# Altium schematic symbol library Schlib1.SchLib: 12 symbols
Pins are listed as number, name and electrical type; pins without a type are passive.

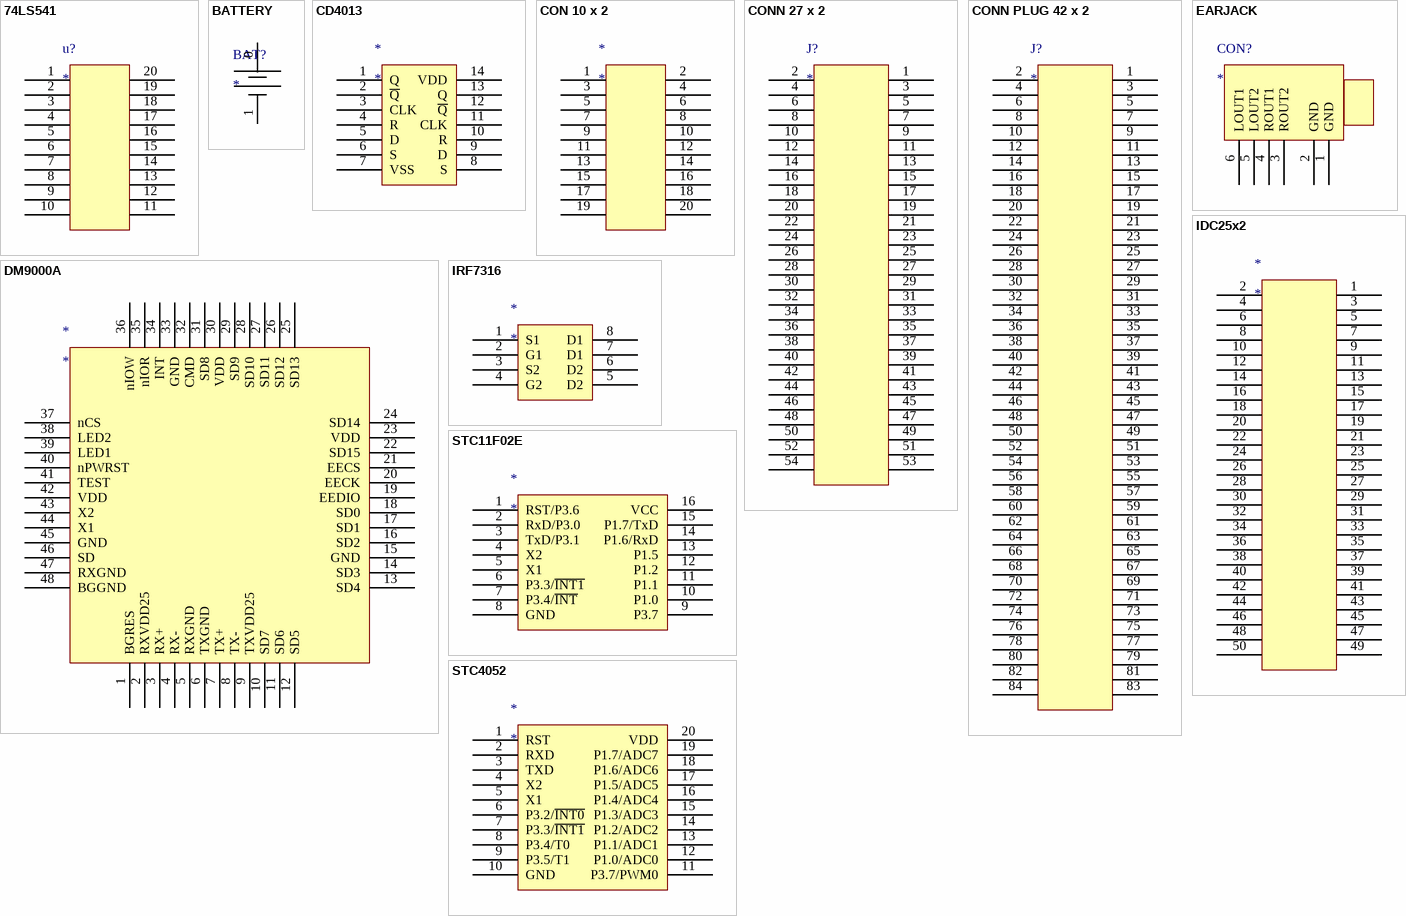
[diagram p0: symbols 74LS541 to STC4052]

## 74LS541
designator u?
pins: 1, 2, 3, 4, 5, 6, 7, 8, 9, 10, 11, 12, 13, 14, 15, 16, 17, 18, 19, 20

## BATTERY
designator BAT?
pins: 0, 1

## CD4013
designator *
pins: 1 Q, 2 ~{Q}, 3 CLK, 4 R, 5 D, 6 S, 7 VSS, 8 S, 9 D, 10 R, 11 CLK, 12 ~{Q}, 13 Q, 14 VDD

## CON 10 x 2
designator *
pins: 1, 2, 3, 4, 5, 6, 7, 8, 9, 10, 11, 12, 13, 14, 15, 16, 17, 18, 19, 20

## CONN 27 x 2
designator J?
pins: 1, 2, 3, 4, 5, 6, 7, 8, 9, 10, 11, 12, 13, 14, 15, 16, 17, 18, 19, 20, 21, 22, 23, 24, 25, 26, 27, 28, 29, 30, 31, 32, 33, 34, 35, 36, 37, 38, 39, 40, 41, 42, 43, 44, 45, 46, 47, 48, 49, 50, 51, 52, 53, 54

## CONN PLUG 42 x 2
designator J?
pins: 1, 2, 3, 4, 5, 6, 7, 8, 9, 10, 11, 12, 13, 14, 15, 16, 17, 18, 19, 20, 21, 22, 23, 24, 25, 26, 27, 28, 29, 30, 31, 32, 33, 34, 35, 36, 37, 38, 39, 40, 41, 42, 43, 44, 45, 46, 47, 48, 49, 50, 51, 52, 53, 54, 55, 56, 57, 58, 59, 60, 61, 62, 63, 64, 65, 66, 67, 68, 69, 70, 71, 72, 73, 74, 75, 76, 77, 78, 79, 80, 81, 82, 83, 84

## DM9000A
designator *
pins: 1 BGRES, 2 RXVDD25, 3 RX+, 4 RX-, 5 RXGND, 6 TXGND, 7 TX+, 8 TX-, 9 TXVDD25, 10 SD7, 11 SD6, 12 SD5, 13 SD4, 14 SD3, 15 GND, 16 SD2, 17 SD1, 18 SD0, 19 EEDIO, 20 EECK, 21 EECS, 22 SD15, 23 VDD, 24 SD14, 25 SD13, 26 SD12, 27 SD11, 28 SD10, 29 SD9, 30 VDD, 31 SD8, 32 CMD, 33 GND, 34 INT, 35 nIOR, 36 nIOW, 37 nCS, 38 LED2, 39 LED1, 40 nPWRST, 41 TEST, 42 VDD, 43 X2, 44 X1, 45 GND, 46 SD, 47 RXGND, 48 BGGND

## EARJACK
designator CON?
pins: 1 GND, 2 GND, 3 ROUT2, 4 ROUT1, 5 LOUT2, 6 LOUT1

## IDC25x2
designator *
pins: 1, 2, 3, 4, 5, 6, 7, 8, 9, 10, 11, 12, 13, 14, 15, 16, 17, 18, 19, 20, 21, 22, 23, 24, 25, 26, 27, 28, 29, 30, 31, 32, 33, 34, 35, 36, 37, 38, 39, 40, 41, 42, 43, 44, 45, 46, 47, 48, 49, 50

## IRF7316
designator *
pins: 1 S1, 2 G1, 3 S2, 4 G2, 5 D2, 6 D2, 7 D1, 8 D1

## STC11F02E
designator *
pins: 1 RST/P3.6, 2 RxD/P3.0, 3 TxD/P3.1, 4 X2, 5 X1, 6 P3.3/~{INT1}, 7 P3.4/~{INT}, 8 GND, 9 P3.7, 10 P1.0, 11 P1.1, 12 P1.2, 13 P1.5, 14 P1.6/RxD, 15 P1.7/TxD, 16 VCC

## STC4052
designator *
pins: 1 RST, 2 RXD, 3 TXD, 4 X2, 5 X1, 6 P3.2/~{INT0}, 7 P3.3/~{INT1}, 8 P3.4/T0, 9 P3.5/T1, 10 GND, 11 P3.7/PWM0, 12 P1.0/ADC0, 13 P1.1/ADC1, 14 P1.2/ADC2, 15 P1.3/ADC3, 16 P1.4/ADC4, 17 P1.5/ADC5, 18 P1.6/ADC6, 19 P1.7/ADC7, 20 VDD